# Altium footprint library basisFootprintLibrary.PcbLib: 6 footprints
Each footprint in its own frame and in the unit in brackets; x right, y up, seen from the top. Pads: shape width x height; smd on the part's side, far side on the other; paste and mask are expansions set on the pad; w line width, h text height; cw(c..) or ccw(c..) is an arc to the next point about the centre after c.
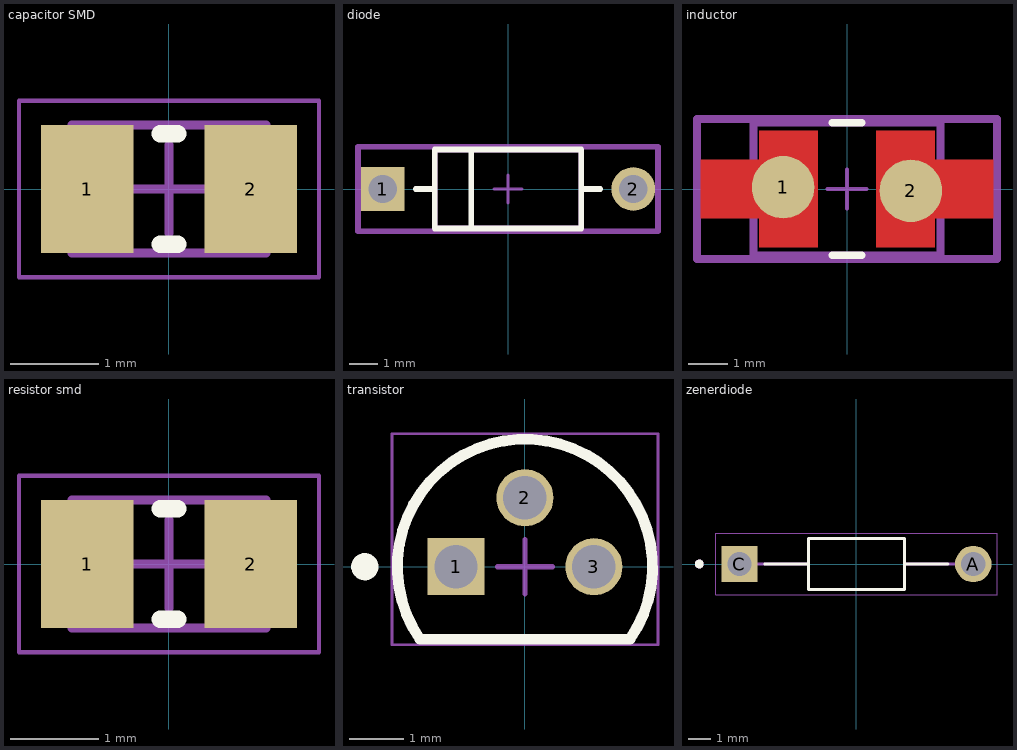
[diagram p0: the footprints below, top view; thin cyan lines are the x and y axes]

## capacitor SMD [mm] "Chip caacitor, 2-Leads, Body 2.00x1.25mm"
height 0.5
pads (2):
  rect 1.05x1.45 smd: 1(-0.925,0) 2(0.925,0)
Top Overlay:
  lines w0.2: -0.1,-0.625 0.1,-0.625 ; -0.1,0.625 0.1,0.625
Mechanical 13:
  lines w0.1: -1.1,-0.725 1.1,-0.725 1.1,0.725 -1.1,0.725 -1.1,-0.725
Mechanical 15:
  lines w0.05: -1.7,-1 1.7,-1 1.7,1 -1.7,1 -1.7,-1
  lines w0.1: -0.5,0 0.5,0 ; 0,-0.5 0,0.5
3D body: height 0.5, standoff 0, extent 0.8,-0.725 1.1,0.725
3D body: height 0.5, standoff 0, extent -1.1,-0.725 -0.8,0.725
3D body: height 0.5, standoff 0, extent -0.8,-0.725 0.8,0.725

## diode [mm]
pads (2):
  rect 1.55x1.55 hole 1 paste-2539.97 mask+0: 1(-4.44,0)
  round 1.55 hole 1 paste-2539.97 mask+0: 2(4.44,0)
Top Overlay:
  lines w0.2: -3.265,0 -2.6,0 ; -1.3,-1.33 -1.3,1.33 ; 2.6,0 3.265,0 ; -2.6,-1.4 2.6,-1.4 2.6,1.4 -2.6,1.4 -2.6,-1.4
Top 3D Body:
  lines w0.2: -2.6,-1.4 2.6,-1.4 2.6,1.4 -2.6,1.4 -2.6,-1.4
Top Courtyard:
  lines w0.2: -5.315,-1.5 5.315,-1.5 5.315,1.5 -5.315,1.5 -5.315,-1.5
Top Assembly:
  lines w0.2: -5.315,-1.5 5.315,-1.5 5.315,1.5 -5.315,1.5 -5.315,-1.5
  text ".Designator" at 0,0.188 h1
Top Component Center:
  lines w0.1: -0.5,0 0.5,0 ; 0,-0.5 0,0.5
3D body "Diode_Diotec_1N4007_eec.STEP": height 0.25, standoff 0, extent -5.315,-1.5 5.315,1.5

## inductor [mm]
pads (2):
  round 1.603 smd paste+0 mask+0: 1(-1.641,0.047) 2(1.641,-0.047)
Top Layer:
  region: -3.75,0.75 -2.25,0.75 -2.25,1.5 -0.75,1.5 -0.75,-1.5 -2.25,-1.5 -2.25,-0.75 -3.75,-0.75
  region: 3.75,0.75 2.25,0.75 2.25,1.5 0.75,1.5 0.75,-1.5 2.25,-1.5 2.25,-0.75 3.75,-0.75
Top Overlay:
  lines w0.2: -0.375,-1.7 0.375,-1.7 ; -0.375,1.7 0.375,1.7
Top 3D Body:
  lines w0.2: -2.4,-1.7 2.4,-1.7 2.4,1.7 -2.4,1.7 -2.4,-1.7
Top Courtyard:
  lines w0.2: -3.85,-1.8 3.85,-1.8 3.85,1.8 -3.85,1.8 -3.85,-1.8
Top Assembly:
  lines w0.2: -3.85,-1.8 3.85,-1.8 3.85,1.8 -3.85,1.8 -3.85,-1.8
  text ".Designator" at 0,-0.001 h1
Top Component Center:
  lines w0.1: -0.5,0 0.5,0 ; 0,-0.5 0,0.5
3D body "Ind_Murata_LQH43MN3R3M03L_eec.STEP": height 0.25, standoff 0, extent -3.85,-1.8 3.85,1.8

## resistor smd [mm] "Chip Resistor, 2-Leads, Body 2.00x1.25mm, IPC Medium Density"
height 0.5
pads (2):
  rect 1.05x1.45 smd: 1(-0.925,0) 2(0.925,0)
Top Overlay:
  lines w0.2: -0.1,-0.625 0.1,-0.625 ; -0.1,0.625 0.1,0.625
Mechanical 13:
  lines w0.1: -1.1,-0.725 1.1,-0.725 1.1,0.725 -1.1,0.725 -1.1,-0.725
Mechanical 15:
  lines w0.05: -1.7,-1 1.7,-1 1.7,1 -1.7,1 -1.7,-1
  lines w0.1: -0.5,0 0.5,0 ; 0,-0.5 0,0.5
3D body: height 0.5, standoff 0, extent 0.8,-0.725 1.1,0.725
3D body: height 0.5, standoff 0, extent -1.1,-0.725 -0.8,0.725
3D body: height 0.5, standoff 0, extent -0.8,-0.725 0.8,0.725

## transistor [mm] "TO, 3-Leads, Body Dia 4.7mm, Pitch 1.27mm"
height 7.87
pads (3):
  rect 1.05x1.05 hole 0.8: 1(-1.27,0)
  round 1.05 hole 0.8: 2(0,1.27) 3(1.27,0)
Top Overlay:
  circle w0.25: c-2.95,0 r0.125
  lines w0.2: -1.934,-1.335 cw(c0,0) 1.934,-1.335 -1.934,-1.335
Mechanical 13:
  lines w0.1: -1.934,-1.335 cw(c0,0) 1.934,-1.335 -1.934,-1.335
Mechanical 15:
  lines w0.05: -2.45,-1.435 2.45,-1.435 2.45,2.45 -2.45,2.45 -2.45,-1.435
  lines w0.1: -0.5,0 0.5,0 ; 0,-0.5 0,0.5
3D body: height 7.87, standoff 2.54, extent -2.349,-1.334 2.357,2.359

## zenerdiode [mm]
height 2.8
pads (2):
  round 1.65 hole 1.1: A(5.3,0)
  rect 1.65x1.65 / inner round 1.65 / far side rect 1.65x1.65 hole 1.1: C(-5.3,0)
Top Overlay:
  circle w0.2: c-7.125,0 r0.1
  lines w0.127: -4.155,0 -2.175,0 ; 4.155,0 2.175,0 ; -2.175,0 -2.175,1.15 2.175,1.15 2.175,0 ; -2.175,0 -2.175,-1.15 2.175,-1.15 2.175,0
Mechanical 13:
  circle w0.2: c-7.125,0 r0.1
  lines w0.127: -5.3,0 -2.175,0 ; 5.3,0 2.175,0 ; -2.175,0 -2.175,1.15 2.175,1.15 2.175,0 ; -2.175,0 -2.175,-1.15 2.175,-1.15 2.175,0
Mechanical 15:
  lines w0.05: -6.375,-1.4 -6.375,1.4 6.375,1.4 6.375,-1.4 -6.375,-1.4
3D body "step_temp.STEP": height 27.72, standoff -27.72, extent -1.175,-1.175 1.175,1.175